# Altium schematic symbol library NCP1680(SchLib).SchLib: 1 symbol
Pins are listed as number, name and electrical type; pins without a type are passive.

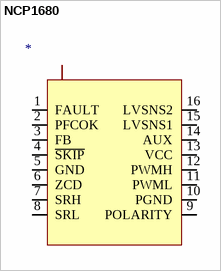
[diagram p0: symbol NCP1680]

## NCP1680
designator *  (value not drawn)
pins: 1 FAULT, 2 PFCOK, 3 FB, 4 ~{SKIP}, 5 GND, 6 ZCD, 7 SRH, 8 SRL, 9 POLARITY, 10 PGND, 11 PWML, 12 PWMH, 13 VCC, 14 AUX, 15 LVSNS1, 16 LVSNS2